# EAGLE library part ADXL335 (library custom)
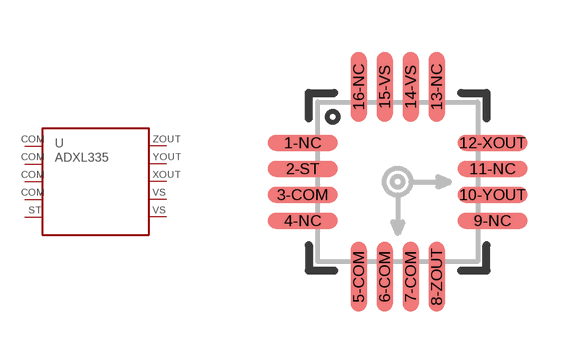
[diagram p2: symbol with the pads of 16-LFCSP; footprint 16-LFCSP]

Designator prefix -

## ADXL335  [16-LFCSP]
2-ST  ST
3-COM  COM
5-COM  COM2
6-COM  COM3
7-COM  COM4
8-ZOUT  ZOUT
10-YOUT  YOUT
12-XOUT  XOUT
14-VS  VS
15-VS  VS2

## Footprint 16-LFCSP (pad centres in mm)
smd 1.75 x 0.4: 1-NC -2.375,0.975; 2-ST -2.375,0.325; 3-COM -2.375,-0.325; 4-NC -2.375,-0.975; 9-NC 2.375,-0.975; 10-YOUT 2.375,-0.325; 11-NC 2.375,0.325; 12-XOUT 2.375,0.975
smd 0.4 x 1.75: 5-COM -0.975,-2.375; 6-COM -0.325,-2.375; 7-COM 0.325,-2.375; 8-ZOUT 0.975,-2.375; 13-NC 0.975,2.375; 14-VS 0.325,2.375; 15-VS -0.325,2.375; 16-NC -0.975,2.375